# Altium footprint library Communication_Interfaces_RS485.PcbLib: 1 footprints
Each footprint in its own frame and in the unit in brackets; x right, y up, seen from the top. Pads: shape width x height; smd on the part's side, far side on the other; paste and mask are expansions set on the pad; w line width, h text height; cw(c..) or ccw(c..) is an arc to the next point about the centre after c.
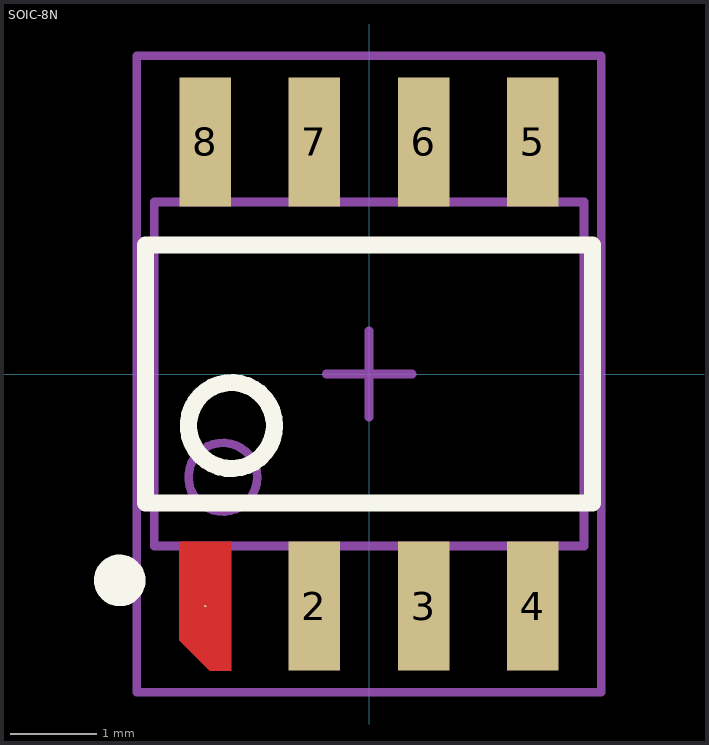
[diagram p0: the footprint, top view; thin cyan lines are the x and y axes]

## SOIC-8N [mm]
height 1.75
pads (8):
  round 0.025 smd: 1(-1.905,-2.7)
  rect 0.6x1.5 smd: 2(-0.635,-2.7) 3(0.635,-2.7) 4(1.905,-2.7) 5(1.905,2.7) 6(0.635,2.7) 7(-0.635,2.7) 8(-1.905,2.7)
Top Layer:
  region: -1.605,-1.95 -2.205,-1.95 -2.205,-3.095 -1.85,-3.45 -1.605,-3.45
Top Overlay:
  circle w0.3: c-2.9,-2.4 r0.15
  circle w0.2: c-1.6,-0.6 r0.5
  lines w0.2: -2.6,-1.5 -2.6,1.5 2.6,1.5 2.6,-1.5 -2.6,-1.5
Top Package:
  circle w0.1: c-1.7,-1.2 r0.4
  lines w0.1: -2.5,-2 -2.5,2 2.5,2 2.5,-2 -2.5,-2 ; -2.075,-3 -1.75,-3 -1.75,-2 -2.075,-2 -2.075,-3 ; -2.075,2 -2.075,3 -1.75,3 -1.75,2 -2.075,2 ; -0.804,-2.998 -0.804,-1.998 -0.479,-1.998 -0.479,-2.998 -0.804,-2.998 ; -0.804,1.998 -0.804,2.998 -0.479,2.998 -0.479,1.998 -0.804,1.998 ; 0.479,-2.998 0.804,-2.998 0.804,-1.998 0.479,-1.998 0.479,-2.998 ; 0.479,1.998 0.804,1.998 0.804,2.998 0.479,2.998 0.479,1.998 ; 1.749,-3.002 1.749,-2.002 2.074,-2.002 2.074,-3.002 1.749,-3.002 ; 1.75,2 1.75,3 2.075,3 2.075,2 1.75,2
Top Comment:
  text ".Comment" at -2.129,-0.474 h1.5
Top Designator:
  text ".Designator" at -3.437,-0.451 h2
Top Border:
  lines w0.1: -0.5,0 0.5,0 ; 0,-0.5 0,0.5 ; -2.7,-3.7 -2.7,3.7 2.7,3.7 2.7,-3.7 -2.7,-3.7
3D body "User Library-SOIC-8-1.step": height 1.75, standoff 0, extent -2.451,-3.002 2.449,2.998